# Altium schematic symbol library SYM-Passive.SchLib: 208 symbols (part 2 of 9)
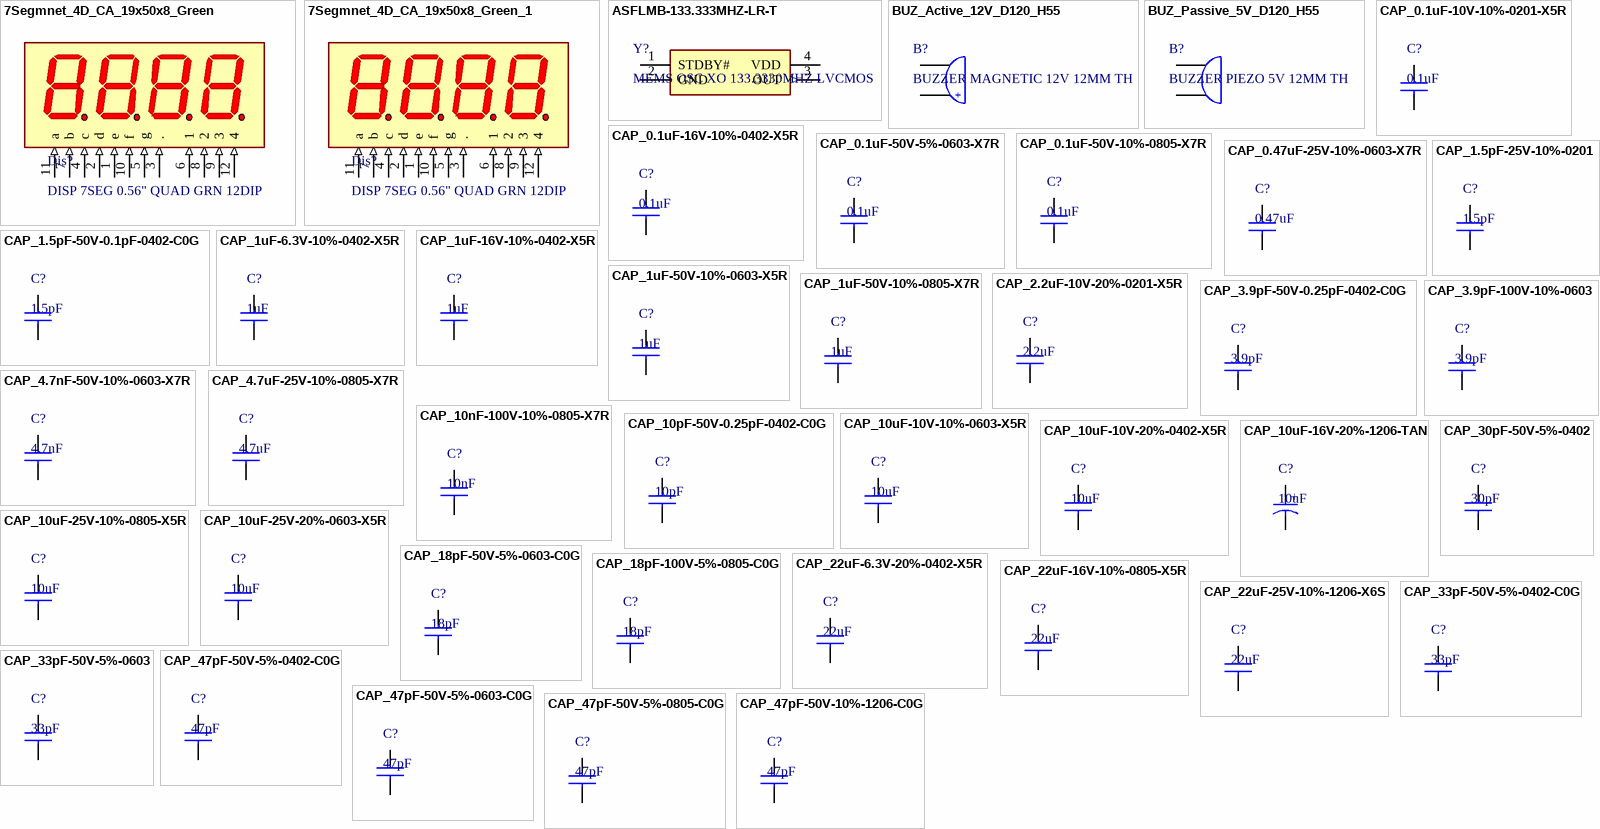
[diagram p6: symbols 7Segmnet_4D_CA_19x50x8_Green to CAP_47pF-50V-10%-1206-C0G]

## CAP_10uF-16V-20%-1206-TAN
designator C?, comment 10uF
Cap Tant Solid 10uF 16V A CASE 20% (3.2 X 1.6 X 1.6mm) SMD 3216-18 0.2 Ohm 125 C T/R; Manufacturer: Kyocera AVX; Manufacturer Part Number: TCJA106M016R0200; Dielectric Material: Tantalum; ESR (Equivalent Series Resistance): 200mR; Leakage Current: 16uA; Polarity: Polar; Dissipation Factor: 6%; Supplier 1: Digi-Key; RoHS: Yes; Category: Tantalum Capacitors; Stock 1: 25; Pricing 1: 1=0/87000, 10=0/61200, 50=0/46240, 100=0/40270, 500=0/29832, 1000=0/25356 (USD); Mount: Surface Mount,PCB; Case/Package: 1206; Number of Pins: 2; Case Code (Imperial): 1206; Case Code (Metric): 3216; Min Operating Temperature: -55°C; Max Operating Temperature: 125°C; Capacitance: 10uF; Voltage Rating: 16V; Packaging: Tape and Reel; Tolerance: 20%; Package Quantity: 1; Voltage Rating (DC): 16V; Termination: SMD/SMT; Voltage: 16V; Length: 3.2mm; Width: 1.6mm; Height: 1.6mm; Height - Seated (Max): 0.071inch; Depth: 1.6mm; Radiation Hardening: No; REACH SVHC: No SVHC; Lead Free: Lead Free; RoHS Compliant: Yes; ComponentLink1URL: https://datasheet.ciiva.com/22706/1805435-22706880.pdf?src-supplier=Element14; ComponentLink1Description: https://datasheet.ciiva.com/22706/1805435-22706880.pdf?src-supplier=Element14; ComponentLink2URL: https://datasheet.ciiva.com/11793/0900766b80eff593-11793323.pdf?src-supplier=RSComponents; ComponentLink2Description: https://datasheet.ciiva.com/11793/0900766b80eff593-11793323.pdf?src-supplier=RSComponents; ComponentLink3URL: https://datasheet.ciiva.com/7730/1805435-7730831.pdf?src-supplier=Element14; ComponentLink3Description: https://datasheet.ciiva.com/7730/1805435-7730831.pdf?src-supplier=Element14; ComponentLink4URL: https://datasheet.ciiva.com/7730/1805435-7730830.pdf?src-supplier=Element14; ComponentLink4Description: https://datasheet.ciiva.com/7730/1805435-7730830.pdf?src-supplier=Element14; ComponentLink5URL: https://datasheet.ciiva.com/7730/1805435-7730829.pdf?src-supplier=Element14; ComponentLink5Description: https://datasheet.ciiva.com/7730/1805435-7730829.pdf?src-supplier=Element14; ComponentLink6URL: https://datasheet.ciiva.com/264/tcj-264056.pdf?src-supplier=Digi-Key; ComponentLink6Description: https://datasheet.ciiva.com/264/tcj-264056.pdf?src-supplier=Digi-Key; ComponentLink7URL: https://datasheet.ciiva.com/264/tcj-264055.pdf?src-supplier=Digi-Key; ComponentLink7Description: https://datasheet.ciiva.com/264/tcj-264055.pdf?src-supplier=Digi-Key; ComponentLink8URL: https://datasheet.ciiva.com/264/tcj-264057.pdf?src-supplier=Digi-Key; ComponentLink8Description: https://datasheet.ciiva.com/264/tcj-264057.pdf?src-supplier=Digi-Key; ComponentLink9URL: https://datasheet.ciiva.com/14593/70001813-14593228.pdf?src-supplier=Allied+Electronics; ComponentLink9Description: https://datasheet.ciiva.com/14593/70001813-14593228.pdf?src-supplier=Allied+Electronics; ComponentLink10URL: https://datasheet.ciiva.com/14596/70001813-14596970.pdf?src-supplier=Allied+Electronics; ComponentLink10Description: https://datasheet.ciiva.com/14596/70001813-14596970.pdf?src-supplier=Allied+Electronics; ComponentLink11URL: https://datasheet.ciiva.com/11230/tcj-11230524.pdf?src-supplier=Avnet; ComponentLink11Description: https://datasheet.ciiva.com/11230/tcj-11230524.pdf?src-supplier=Avnet; ComponentLink12URL: https://datasheet.ciiva.com/16493/tcj-16493481.pdf?src-supplier=Future+Electronics; ComponentLink12Description: https://datasheet.ciiva.com/16493/tcj-16493481.pdf?src-supplier=Future+Electronics; Supplier Part Number 1: 478-3451-1-ND
footprint CAPMP3216X18N - A (Molded Capacitor, 2-Leads, Body 3/20x1/60mm, IPC Medium Density)
pins: A 2, C 1
text: +

## CAP_10uF-25V-10%-0805-X5R
designator C?, comment 10uF
CAP CER 10UF 25V X5R 0805; Manufacturer: Samsung; Manufacturer Part Number: CL21A106KAYNNNE; Tolerance: 10%; Supplier 1: Digi-Key; RoHS: Yes; Category: Ceramic Capacitors; Stock 1: 2610903; Pricing 1: 1=0/20000, 10=0/14000, 50=0/07920, 100=0/06570, 500=0/04606, 1000=0/03814 (USD); Mount: Surface Mount; Case/Package: 0805; Case Code (Metric): 2012; Case Code (Imperial): 0805; Min Operating Temperature: -55°C; Max Operating Temperature: 85°C; Package Quantity: 1; Packaging: Tape and Reel; Capacitance: 10uF; Voltage Rating: 25V; Dielectric: X5R; Series: CL; Construction: Flat; Length: 2mm; Width: 0.049inch; Height: 1.25mm; Thickness: 0.057inch; Depth: 1.25mm; Radiation Hardening: No; RoHS Compliant: Yes; ComponentLink1URL: https://datasheet.ciiva.com/25796/cl21a106kaynnne-25796720.pdf?src-supplier=Digi-Key; ComponentLink1Description: https://datasheet.ciiva.com/25796/cl21a106kaynnne-25796720.pdf?src-supplier=Digi-Key; ComponentLink2URL: https://datasheet.ciiva.com/26838/getdatasheetpartid-357558-26838583.pdf?src-supplier=Verical; ComponentLink2Description: https://datasheet.ciiva.com/26838/getdatasheetpartid-357558-26838583.pdf?src-supplier=Verical; Supplier Part Number 1: 1276-2891-1-ND
footprint CAPC2012X14N - 0805 (Chip Capacitor, 2-Leads, Body 2/00x1/25mm, IPC Medium Density)
footprint CAPC2012X14M - 0805 (Chip Capacitor, 2-Leads, Body 2/00x1/25mm, IPC Low Density)
footprint CAPC2012X14L - 0805 (Chip Capacitor, 2-Leads, Body 2/00x1/25mm, IPC High Density)
pins: 1, 2

## CAP_10uF-25V-20%-0603-X5R
designator C?, comment 10uF
CAP CER 10UF 25V X5R 0603; Manufacturer: Samsung; Manufacturer Part Number: CL10A106MA8NRNC; Tolerance: 20%; Supplier 1: Digi-Key; RoHS: Yes; Category: Ceramic Capacitors; Stock 1: 1176536; Pricing 1: 1=0/26000, 10=0/17900, 50=0/11960, 100=0/10170, 500=0/07178, 1000=0/06280 (USD); Mount: Surface Mount; Case/Package: 0603; Case Code (Metric): 1608; Case Code (Imperial): 0603; Contact Plating: Tin; Min Operating Temperature: -55°C; Max Operating Temperature: 85°C; Package Quantity: 1; Packaging: Tape and Reel; Capacitance: 10uF; Voltage Rating: 25V; Dielectric: X5R; Termination: Wraparound; Series: CL; Construction: Flat; Length: 0.063inch; Width: 0.031inch; Thickness: 0.035inch; Lead Free: Lead Free; RoHS Compliant: Yes; ComponentLink1URL: https://datasheet.ciiva.com/25766/cl10a106ma8nrnc-25766562.pdf?src-supplier=Digi-Key; ComponentLink1Description: https://datasheet.ciiva.com/25766/cl10a106ma8nrnc-25766562.pdf?src-supplier=Digi-Key; Supplier Part Number 1: 1276-1869-1-ND
footprint CAPC1608X07N - 0603 (Chip Capacitor, 2-Leads, Body 1/60x0/80mm, IPC Medium Density)
footprint CAPC1608X07M - 0603 (Chip Capacitor, 2-Leads, Body 1/60x0/80mm, IPC Low Density)
footprint CAPC1608X07L - 0603 (Chip Capacitor, 2-Leads, Body 1/60x0/80mm, IPC High Density)
pins: 1, 2

## CAP_18pF-50V-5%-0603-C0G
designator C?, comment 18pF
Cap Ceramic 18pF 50V C0G 5% SMD 0603 125°C Paper T/R; Manufacturer: Samsung; Manufacturer Part Number: CL10C180JB81PNC; Supplier 1: Digi-Key; RoHS: Yes; Category: Ceramic Capacitors; Stock 1: 184038; Pricing 1: 1=0/10000, 10=0/04700, 50=0/02540, 100=0/02080, 500=0/01482, 1000=0/01165 (USD); Mount: Surface Mount; Case/Package: 0603; Case Code (Metric): 1608; Case Code (Imperial): 0603; Min Operating Temperature: -55°C; Max Operating Temperature: 125°C; Tolerance: 5%; Packaging: Tape and Reel; Capacitance: 18pF; Voltage Rating: 50V; Dielectric: C0G; Series: CL; Length: 1.6mm; Width: 0.031inch; Thickness: 0.035inch; Depth: 0.8mm; Ratings: AEC-Q200; Radiation Hardening: No; Lead Free: Lead Free; RoHS Compliant: Yes; ComponentLink1URL: https://datasheet.ciiva.com/16209/cl10c180jb81pnc-16209341.pdf?src-supplier=Future+Electronics; ComponentLink1Description: https://datasheet.ciiva.com/16209/cl10c180jb81pnc-16209341.pdf?src-supplier=Future+Electronics; ComponentLink2URL: https://datasheet.ciiva.com/15195/getdatasheetpartid-357568-15195801.pdf?src-supplier=Verical; ComponentLink2Description: https://datasheet.ciiva.com/15195/getdatasheetpartid-357568-15195801.pdf?src-supplier=Verical; Supplier Part Number 1: 1276-2208-1-ND
footprint CAPC1608X07N - 0603 (Chip Capacitor, 2-Leads, Body 1/60x0/80mm, IPC Medium Density)
footprint CAPC1608X07M - 0603 (Chip Capacitor, 2-Leads, Body 1/60x0/80mm, IPC Low Density)
footprint CAPC1608X07L - 0603 (Chip Capacitor, 2-Leads, Body 1/60x0/80mm, IPC High Density)
pins: 1, 2

## CAP_18pF-100V-5%-0805-C0G
designator C?, comment 18pF
Cap Ceramic 18pF 100V C0G 5% SMD 0805 125°C Paper T/R; Manufacturer: Samsung; Manufacturer Part Number: CL21C180JC61PNC; Supplier 1: Digi-Key; RoHS: Yes; Category: Ceramic Capacitors; Stock 1: 90; Pricing 1: 1=0/11000, 10=0/07500, 50=0/04260 (USD); Mount: Surface Mount; Case/Package: 0805; Case Code (Metric): 2012; Case Code (Imperial): 0805; Min Operating Temperature: -55°C; Max Operating Temperature: 125°C; Packaging: Tape and Reel; Capacitance: 18pF; Voltage Rating: 100V; Tolerance: 5%; Length: 0.079inch; Width: 0.049inch; Thickness: 0.028inch; Ratings: AEC-Q200; RoHS Compliant: Yes; ComponentLink1URL: http://samsungcapacitor.com/data/pdf/CC_Automotive.pdf?PHPSESSID=19333890dc25507cc6331564d43e77e7&src-supplier=Avnet; ComponentLink1Description: http://samsungcapacitor.com/data/pdf/CC_Automotive.pdf?PHPSESSID=19333890dc25507cc6331564d43e77e7&src-supplier=Avnet; ComponentLink2URL: http://www.samsungsem.com/kr/support/library/product-catalog/mlcc.jsp?src-supplier=Digi-Key; ComponentLink2Description: http://www.samsungsem.com/kr/support/library/product-catalog/mlcc.jsp?src-supplier=Digi-Key; Supplier Part Number 1: 1276-6765-1-ND
footprint CAPC2012X14N - 0805 (Chip Capacitor, 2-Leads, Body 2/00x1/25mm, IPC Medium Density)
footprint CAPC2012X14M - 0805 (Chip Capacitor, 2-Leads, Body 2/00x1/25mm, IPC Low Density)
footprint CAPC2012X14L - 0805 (Chip Capacitor, 2-Leads, Body 2/00x1/25mm, IPC High Density)
pins: 1, 2

## CAP_22uF-6.3V-20%-0402-X5R
designator C?, comment 22uF
Cap Ceramic 22uF 6.3V X5R 20% SMD 0402 85°C Cardboard T/R; Manufacturer: Samsung; Manufacturer Part Number: CL05A226MQ5QUNC; Supplier 1: Digi-Key; RoHS: Yes; Category: Ceramic Capacitors; Stock 1: 303668; Pricing 1: 1=0/60000, 10=0/42200, 50=0/31940, 100=0/27820, 500=0/20608, 1000=0/17517, 2500=0/16486, 5000=0/15456 (USD); Mount: Surface Mount; Case/Package: 0402; Case Code (Metric): 1005; Case Code (Imperial): 0402; Min Operating Temperature: -55°C; Max Operating Temperature: 85°C; Packaging: Tape and Reel; Capacitance: 22uF; Voltage Rating: 6.3V; Tolerance: 20%; Length: 0.039inch; Width: 0.02inch; Thickness: 0.022inch; RoHS Compliant: Yes; ComponentLink1URL: http://www.samsungsem.com/kr/support/product-search/mlcc/__icsFiles/afieldfile/2018/08/20/Data%20sheet_CL05A226MQ5QUNC.pdf?src-supplier=Digi-Key; ComponentLink1Description: http://www.samsungsem.com/kr/support/product-search/mlcc/__icsFiles/afieldfile/2018/08/20/Data%20sheet_CL05A226MQ5QUNC.pdf?src-supplier=Digi-Key; Supplier Part Number 1: 1276-6834-1-ND
footprint CAPC1005X07N - 0402 (Chip Capacitor, 2-Leads, Body 1/00x0/50mm, IPC Medium Density)
footprint CAPC1005X07M - 0402 (Chip Capacitor, 2-Leads, Body 1/00x0/50mm, IPC Low Density)
footprint CAPC1005X07L - 0402 (Chip Capacitor, 2-Leads, Body 1/00x0/50mm, IPC High Density)
pins: 1, 2

## CAP_22uF-16V-10%-0805-X5R
designator C?, comment 22uF
CL21 Series 0805 22 uF 16 V ±10% Tolerance X5R Multilayer Ceramic Capacitor; Manufacturer: Samsung; Manufacturer Part Number: CL21A226KOQNNNE; Voltage Rating: 16V; Supplier 1: Digi-Key; RoHS: Yes; Category: Ceramic Capacitors; Stock 1: 721; Pricing 1: 1=0/37000, 10=0/25800, 50=0/18040, 100=0/15460, 500=0/11592, 1000=0/09789 (USD); Mount: Surface Mount; Case/Package: 0805; Case Code (Metric): 2012; Case Code (Imperial): 0805; Min Operating Temperature: -55°C; Max Operating Temperature: 85°C; Packaging: Tape and Reel; Capacitance: 22uF; Tolerance: 10%; Voltage Rating (DC): 16V; Length: 0.079inch; Width: 0.049inch; Thickness: 0.055inch; Lead Free: Lead Free; RoHS Compliant: Yes; ComponentLink1URL: http://www.samsungsem.com/kr/support/library/product-catalog/mlcc.jsp?src-supplier=Digi-Key; ComponentLink1Description: http://www.samsungsem.com/kr/support/library/product-catalog/mlcc.jsp?src-supplier=Digi-Key; Supplier Part Number 1: 1276-6526-1-ND
footprint CAPC2012X14N - 0805 (Chip Capacitor, 2-Leads, Body 2/00x1/25mm, IPC Medium Density)
footprint CAPC2012X14M - 0805 (Chip Capacitor, 2-Leads, Body 2/00x1/25mm, IPC Low Density)
footprint CAPC2012X14L - 0805 (Chip Capacitor, 2-Leads, Body 2/00x1/25mm, IPC High Density)
pins: 1, 2

## CAP_22uF-25V-10%-1206-X6S
designator C?, comment 22uF
Cap Ceramic 22uF 25V X6S 10% SMD 1206 105°C Embossed Plastic T/R; Manufacturer: Samsung; Manufacturer Part Number: CL31X226KAHN3NE; Supplier 1: Digi-Key; RoHS: Yes; Category: Ceramic Capacitors; Stock 1: 44746; Pricing 1: 1=0/74000, 10=0/54300, 50=0/43420, 100=0/37220, 500=0/29464, 1000=0/24812 (USD); Mount: Surface Mount; Case/Package: 1206; Case Code (Metric): 3216; Case Code (Imperial): 1206; Contact Plating: Tin; Min Operating Temperature: -55°C; Max Operating Temperature: 105°C; Package Quantity: 1; Packaging: Cut Tape; Capacitance: 22uF; Tolerance: 10%; Voltage Rating: 25V; Dielectric: X6S; Termination: Wraparound; Length: 0.126inch; Width: 0.063inch; Thickness: 0.071inch; Lead Free: Lead Free; RoHS Compliant: Yes; ComponentLink1URL: https://datasheet.ciiva.com/25721/cl31x226kahn3ne-25721637.pdf?src-supplier=Digi-Key; ComponentLink1Description: https://datasheet.ciiva.com/25721/cl31x226kahn3ne-25721637.pdf?src-supplier=Digi-Key; Supplier Part Number 1: 1276-3299-1-ND
footprint CAPC3216X18N - 1206 (Chip Capacitor, 2-Leads, Body 3/20x1/60mm, IPC Medium Density)
footprint CAPC3216X18M - 1206 (Chip Capacitor, 2-Leads, Body 3/20x1/60mm, IPC Low Density)
footprint CAPC3216X18L - 1206 (Chip Capacitor, 2-Leads, Body 3/20x1/60mm, IPC High Density)
pins: 1, 2

## CAP_30pF-50V-5%-0402
designator C?, comment 30pF
Cap Ceramic 30pF 50V C0G 5% Pad SMD 0402 125°C Ultra Low ESR T/R; Manufacturer: Johanson; Manufacturer Part Number: 500R07S300JV4T; Supplier 1: Digi-Key; RoHS: Yes; Category: Ceramic Capacitors; Stock 1: 64229; Pricing 1: 1=0/22000, 10=0/14800, 50=0/08920, 100=0/07520, 500=0/05148, 1000=0/04554, 2500=0/04356, 5000=0/03960 (USD); Case/Package: 0402; Contact Plating: Tin; Case Code (Imperial): 0402; Case Code (Metric): 1005; Min Operating Temperature: -55°C; Max Operating Temperature: 125°C; Package Quantity: 1; Voltage Rating: 50V; Voltage Rating (DC): 50V; Termination: SMD/SMT; Dielectric: C0G; Tolerance: 5%; Packaging: Tape and Reel; Capacitance: 30pF; Length: 1.02mm; Width: 0.02inch; Height: 0.64mm; Thickness: 0.024inch; Depth: 0.51mm; ComponentLink1URL: http://components.arrow.com/part/dataview/0323_06014503?src-supplier=Arrow+Europe; ComponentLink1Description: http://components.arrow.com/part/dataview/0323_06014503?src-supplier=Arrow+Europe; ComponentLink2URL: http://www.mouser.com/ds/2/611/JTI-CAT-MLCC-HighQ-516212.pdf?src-supplier=Mouser; ComponentLink2Description: http://www.mouser.com/ds/2/611/JTI-CAT-MLCC-HighQ-516212.pdf?src-supplier=Mouser; ComponentLink3URL: http://components.arrow.com/part/dataview/52294758S635432N2069?src-supplier=Arrow+Electronics; ComponentLink3Description: http://components.arrow.com/part/dataview/52294758S635432N2069?src-supplier=Arrow+Electronics; ComponentLink4URL: https://www.johansontechnology.com/downloads/JTI-CAT-MLCC-HighQ.pdf?src-supplier=Digi-Key; ComponentLink4Description: https://www.johansontechnology.com/downloads/JTI-CAT-MLCC-HighQ.pdf?src-supplier=Digi-Key; ComponentLink5URL: https://www.johansontechnology.com/downloads/catalog/johanson-technology-multi-layer-high-q-capacitors.pdf?src-supplier=Digi-Key; ComponentLink5Description: https://www.johansontechnology.com/downloads/catalog/johanson-technology-multi-layer-high-q-capacitors.pdf?src-supplier=Digi-Key; ComponentLink6URL: http://www.johansontechnology.com/downloads/JTI-CAT-MLCC-HighQ.pdf?src-supplier=Avnet+Asia; ComponentLink6Description: http://www.johansontechnology.com/downloads/JTI-CAT-MLCC-HighQ.pdf?src-supplier=Avnet+Asia; Supplier Part Number 1: 712-1296-1-ND
footprint CAPC1005X07N - 0402 (Chip Capacitor, 2-Leads, Body 1/00x0/50mm, IPC Medium Density)
footprint CAPC1005X07M - 0402 (Chip Capacitor, 2-Leads, Body 1/00x0/50mm, IPC Low Density)
footprint CAPC1005X07L - 0402 (Chip Capacitor, 2-Leads, Body 1/00x0/50mm, IPC High Density)
pins: 1, 2

## CAP_33pF-50V-5%-0402-C0G
designator C?, comment 33pF
Ceramic capacitor SMD-0402 33pF /50V C0G# J +-5%, Samsung, RoHS; Manufacturer Part Number: CL05C330JB5NNNC; Tolerance: 5%; Voltage Rating: 50V; Dielectric: C0G; Temperature Coefficient: 300ppm/°C; Supplier 1: Digi-Key; Manufacturer: Samsung; RoHS: Yes; Category: Ceramic Capacitors; Stock 1: 10028715; Pricing 1: 1=0/10000, 10=0/02300, 50=0/01260, 100=0/01020, 500=0/00732, 1000=0/00575, 2500=0/00523, 5000=0/00481 (USD); Mount: Surface Mount; Case/Package: 0402; Case Code (Metric): 1005; Case Code (Imperial): 0402; Material: Ceramic; Contact Plating: Tin; Min Operating Temperature: -55°C; Max Operating Temperature: 125°C; Package Quantity: 1; Packaging: Tape and Reel; Capacitance: 33pF; Voltage: 50V; Voltage Rating (DC): 50V; Series: CL; Construction: Flat; Length: 1mm; Width: 0.02inch; Height: 0.5mm; Thickness: 0.022inch; Depth: 0.5mm; Radiation Hardening: No; Lead Free: Lead Free; RoHS Compliant: Yes; ComponentLink1URL: https://datasheet.ciiva.com/15195/getdatasheetpartid-355282-15195687.pdf?src-supplier=Verical; ComponentLink1Description: https://datasheet.ciiva.com/15195/getdatasheetpartid-355282-15195687.pdf?src-supplier=Verical; ComponentLink2URL: https://datasheet.ciiva.com/29198/458594-da-01-en-vs-kondensator-0402-29198402.pdf?src-supplier=Conrad; ComponentLink2Description: https://datasheet.ciiva.com/29198/458594-da-01-en-vs-kondensator-0402-29198402.pdf?src-supplier=Conrad; Supplier Part Number 1: 1276-1272-1-ND
footprint CAPC1005X07N - 0402 (Chip Capacitor, 2-Leads, Body 1/00x0/50mm, IPC Medium Density)
footprint CAPC1005X07M - 0402 (Chip Capacitor, 2-Leads, Body 1/00x0/50mm, IPC Low Density)
footprint CAPC1005X07L - 0402 (Chip Capacitor, 2-Leads, Body 1/00x0/50mm, IPC High Density)
pins: 1, 2

## CAP_33pF-50V-5%-0603
designator C?, comment 33pF
CAP CER 33PF 50V C0G/NP0 0603; Manufacturer: Samsung; Manufacturer Part Number: CL10C330JB8NNNC; Material: Ceramic; Tolerance: 5%; Dielectric: C0G; Temperature Coefficient: 30ppm/°C; Supplier 1: Digi-Key; RoHS: Yes; Category: Ceramic Capacitors; Stock 1: 59691; Pricing 1: 1=0/10000, 10=0/04700, 50=0/02580, 100=0/02110, 500=0/01510, 1000=0/01186 (USD); Mount: Surface Mount; Case/Package: 0603; Case Code (Metric): 1608; Case Code (Imperial): 0603; Contact Plating: Tin; Min Operating Temperature: -55°C; Max Operating Temperature: 125°C; Capacitance: 33pF; Voltage: 50V; Voltage Rating (DC): 50V; Packaging: Tape and Reel; Voltage Rating: 50V; Package Quantity: 4000; Series: CL; Construction: Flat; Length: 1.6mm; Width: 0.031inch; Height: 0.8mm; Depth: 0.8mm; Thickness: 0.035inch; Radiation Hardening: No; Lead Free: Lead Free; RoHS Compliant: Yes; ComponentLink1URL: https://datasheet.ciiva.com/15195/getdatasheetpartid-359562-15195818.pdf?src-supplier=Verical; ComponentLink1Description: https://datasheet.ciiva.com/15195/getdatasheetpartid-359562-15195818.pdf?src-supplier=Verical; ComponentLink2URL: https://datasheet.ciiva.com/29198/457018-da-01-en-vs-kondensator-0603-29198727.pdf?src-supplier=Conrad; ComponentLink2Description: https://datasheet.ciiva.com/29198/457018-da-01-en-vs-kondensator-0603-29198727.pdf?src-supplier=Conrad; Supplier Part Number 1: 1276-1070-1-ND
footprint CAPC1608X07N - 0603 (Chip Capacitor, 2-Leads, Body 1/60x0/80mm, IPC Medium Density)
footprint CAPC1608X07M - 0603 (Chip Capacitor, 2-Leads, Body 1/60x0/80mm, IPC Low Density)
footprint CAPC1608X07L - 0603 (Chip Capacitor, 2-Leads, Body 1/60x0/80mm, IPC High Density)
pins: 1, 2

## CAP_47pF-50V-5%-0402-C0G
designator C?, comment 47pF
Ceramic capacitor SMD-0402 47pF /50V C0G # K +-5%, Samsung, RoHS; Manufacturer Part Number: CL05C470JB5NNNC; Tolerance: 5%; Voltage Rating: 50V; Temperature Coefficient: 300ppm/°C; Supplier 1: Digi-Key; Manufacturer: Samsung; RoHS: Yes; Category: Ceramic Capacitors; Mount: Surface Mount; Case/Package: 0402; Case Code (Metric): 1005; Case Code (Imperial): 0402; Material: Ceramic; Contact Plating: Tin; Min Operating Temperature: -55°C; Max Operating Temperature: 125°C; Packaging: Tape and Reel; Package Quantity: 1; Capacitance: 47pF; Dielectric: C0G; Voltage: 50V; Series: CL; Construction: Flat; Length: 1mm; Width: 0.02inch; Height: 0.5mm; Thickness: 0.022inch; Depth: 0.5mm; Radiation Hardening: No; RoHS Compliant: Yes; ComponentLink1URL: https://datasheet.ciiva.com/15195/getdatasheetpartid-466159-15195693.pdf?src-supplier=Verical; ComponentLink1Description: https://datasheet.ciiva.com/15195/getdatasheetpartid-466159-15195693.pdf?src-supplier=Verical; ComponentLink2URL: https://datasheet.ciiva.com/29198/458555-da-01-en-vs-kondensator-0402-29198397.pdf?src-supplier=Conrad; ComponentLink2Description: https://datasheet.ciiva.com/29198/458555-da-01-en-vs-kondensator-0402-29198397.pdf?src-supplier=Conrad; ComponentLink3URL: https://datasheet.ciiva.com/16297/cl05b104kq5nnnc-16297131.pdf?src-supplier=Future+Electronics; ComponentLink3Description: https://datasheet.ciiva.com/16297/cl05b104kq5nnnc-16297131.pdf?src-supplier=Future+Electronics; Supplier Part Number 1: 1276-1699-1-ND
footprint CAPC1005X07N - 0402 (Chip Capacitor, 2-Leads, Body 1/00x0/50mm, IPC Medium Density)
footprint CAPC1005X07M - 0402 (Chip Capacitor, 2-Leads, Body 1/00x0/50mm, IPC Low Density)
footprint CAPC1005X07L - 0402 (Chip Capacitor, 2-Leads, Body 1/00x0/50mm, IPC High Density)
pins: 1, 2

## CAP_47pF-50V-5%-0603-C0G
designator C?, comment 47pF
Ceramic capacitor SMD-0603 47pF /50V NP0# J +-5%, Samsung, RoHS; Manufacturer Part Number: CL10C470JB8NNNC; Voltage Rating (DC): 50V; Tolerance: 5%; Dielectric: C0G; Temperature Coefficient: 300ppm/°C; Supplier 1: Digi-Key; Manufacturer: Samsung; RoHS: Yes; Category: Ceramic Capacitors; Stock 1: 2230575; Pricing 1: 1=0/10000, 10=0/04100, 50=0/02240, 100=0/01830, 500=0/01308, 1000=0/01028 (USD); Mount: Surface Mount; Case/Package: 0603; Material: Ceramic; Case Code (Metric): 1608; Case Code (Imperial): 0603; Min Operating Temperature: -55°C; Max Operating Temperature: 125°C; Voltage Rating: 50V; Capacitance: 47pF; Package Quantity: 1; Packaging: Tape and Reel; Voltage: 50V; Series: CL; Construction: Flat; Length: 1.6mm; Width: 0.031inch; Height: 0.8mm; Depth: 0.8mm; Thickness: 0.035inch; Radiation Hardening: No; Lead Free: Lead Free; RoHS Compliant: Yes; ComponentLink1URL: https://datasheet.ciiva.com/25803/cl10c470jb8nnnc-25803543.pdf?src-supplier=Digi-Key; ComponentLink1Description: https://datasheet.ciiva.com/25803/cl10c470jb8nnnc-25803543.pdf?src-supplier=Digi-Key; ComponentLink2URL: https://datasheet.ciiva.com/26838/getdatasheetpartid-359564-26838540.pdf?src-supplier=Verical; ComponentLink2Description: https://datasheet.ciiva.com/26838/getdatasheetpartid-359564-26838540.pdf?src-supplier=Verical; ComponentLink3URL: https://datasheet.ciiva.com/29198/456890-da-01-en-vs-kondensator-0603-29198885.pdf?src-supplier=Conrad; ComponentLink3Description: https://datasheet.ciiva.com/29198/456890-da-01-en-vs-kondensator-0603-29198885.pdf?src-supplier=Conrad; ComponentLink4URL: https://datasheet.ciiva.com/26310/mlcc-catalogdownload2013-eng-26310294.pdf?src-supplier=Distrelec; ComponentLink4Description: https://datasheet.ciiva.com/26310/mlcc-catalogdownload2013-eng-26310294.pdf?src-supplier=Distrelec; Supplier Part Number 1: 1276-1037-1-ND
footprint CAPC1608X07N - 0603 (Chip Capacitor, 2-Leads, Body 1/60x0/80mm, IPC Medium Density)
footprint CAPC1608X07M - 0603 (Chip Capacitor, 2-Leads, Body 1/60x0/80mm, IPC Low Density)
footprint CAPC1608X07L - 0603 (Chip Capacitor, 2-Leads, Body 1/60x0/80mm, IPC High Density)
pins: 1, 2

## CAP_47pF-50V-5%-0805-C0G
designator C?, comment 47pF
Cap Ceramic 47pF 50V C0G 5% Pad SMD 0805 125C Automotive T/R; Manufacturer: Samsung; Manufacturer Part Number: CL21C470JB61PNC; Temperature Coefficient: 300ppm/°C; Supplier 1: Digi-Key; RoHS: Yes; Category: Ceramic Capacitors; Stock 1: 5; Pricing 1: 1=0/23000 (USD); Mount: Surface Mount; Case/Package: 0805; Case Code (Metric): 2012; Case Code (Imperial): 0805; Min Operating Temperature: -55°C; Max Operating Temperature: 125°C; Package Quantity: 1; Packaging: Tape and Reel; Capacitance: 47pF; Tolerance: 5%; Voltage Rating: 50V; Dielectric: C0G; Voltage: 50V; Series: CL; Construction: Flat; Length: 1.6mm; Width: 0.049inch; Height: 0.6mm; Thickness: 0.028inch; Depth: 0.8mm; Ratings: AEC-Q200; Radiation Hardening: No; Lead Free: Lead Free; RoHS Compliant: Yes; ComponentLink1URL: https://datasheet.ciiva.com/15195/getdatasheetpartid-355207-15195962.pdf?src-supplier=Verical; ComponentLink1Description: https://datasheet.ciiva.com/15195/getdatasheetpartid-355207-15195962.pdf?src-supplier=Verical; ComponentLink2URL: https://datasheet.ciiva.com/16396/cl21c470jb61pnc-16396938.pdf?src-supplier=Future+Electronics; ComponentLink2Description: https://datasheet.ciiva.com/16396/cl21c470jb61pnc-16396938.pdf?src-supplier=Future+Electronics; Supplier Part Number 1: 1276-2660-1-ND
footprint CAPC2012X14N - 0805 (Chip Capacitor, 2-Leads, Body 2/00x1/25mm, IPC Medium Density)
footprint CAPC2012X14M - 0805 (Chip Capacitor, 2-Leads, Body 2/00x1/25mm, IPC Low Density)
footprint CAPC2012X14L - 0805 (Chip Capacitor, 2-Leads, Body 2/00x1/25mm, IPC High Density)
pins: 1, 2

## CAP_47pF-50V-10%-1206-C0G
designator C?, comment 47pF
Cap Ceramic 47pF 50V C0G 10% SMD 1206 125°C Cardboard T/R; Manufacturer: Samsung; Manufacturer Part Number: CL31C470KBCNNNC; Supplier 1: Digi-Key; RoHS: Yes; Category: Ceramic Capacitors; Mount: Surface Mount; Case/Package: 1206; Case Code (Metric): 3216; Case Code (Imperial): 1206; Min Operating Temperature: -55°C; Max Operating Temperature: 125°C; Package Quantity: 1; Packaging: Tape and Reel; Capacitance: 47pF; Tolerance: 10%; Voltage Rating: 50V; Dielectric: C0G; Voltage Rating (DC): 50V; Series: CL; Construction: Flat; Length: 0.126inch; Width: 0.063inch; Height: 0.85mm; Thickness: 0.039inch; Depth: 1.6mm; Radiation Hardening: No; RoHS Compliant: Yes; ComponentLink1URL: https://datasheet.ciiva.com/25719/cl31c470kbcnnnc-25719333.pdf?src-supplier=Digi-Key; ComponentLink1Description: https://datasheet.ciiva.com/25719/cl31c470kbcnnnc-25719333.pdf?src-supplier=Digi-Key; Supplier Part Number 1: 1276-2839-1-ND
footprint CAPC3216X18N - 1206 (Chip Capacitor, 2-Leads, Body 3/20x1/60mm, IPC Medium Density)
footprint CAPC3216X18M - 1206 (Chip Capacitor, 2-Leads, Body 3/20x1/60mm, IPC Low Density)
footprint CAPC3216X18L - 1206 (Chip Capacitor, 2-Leads, Body 3/20x1/60mm, IPC High Density)
pins: 1, 2

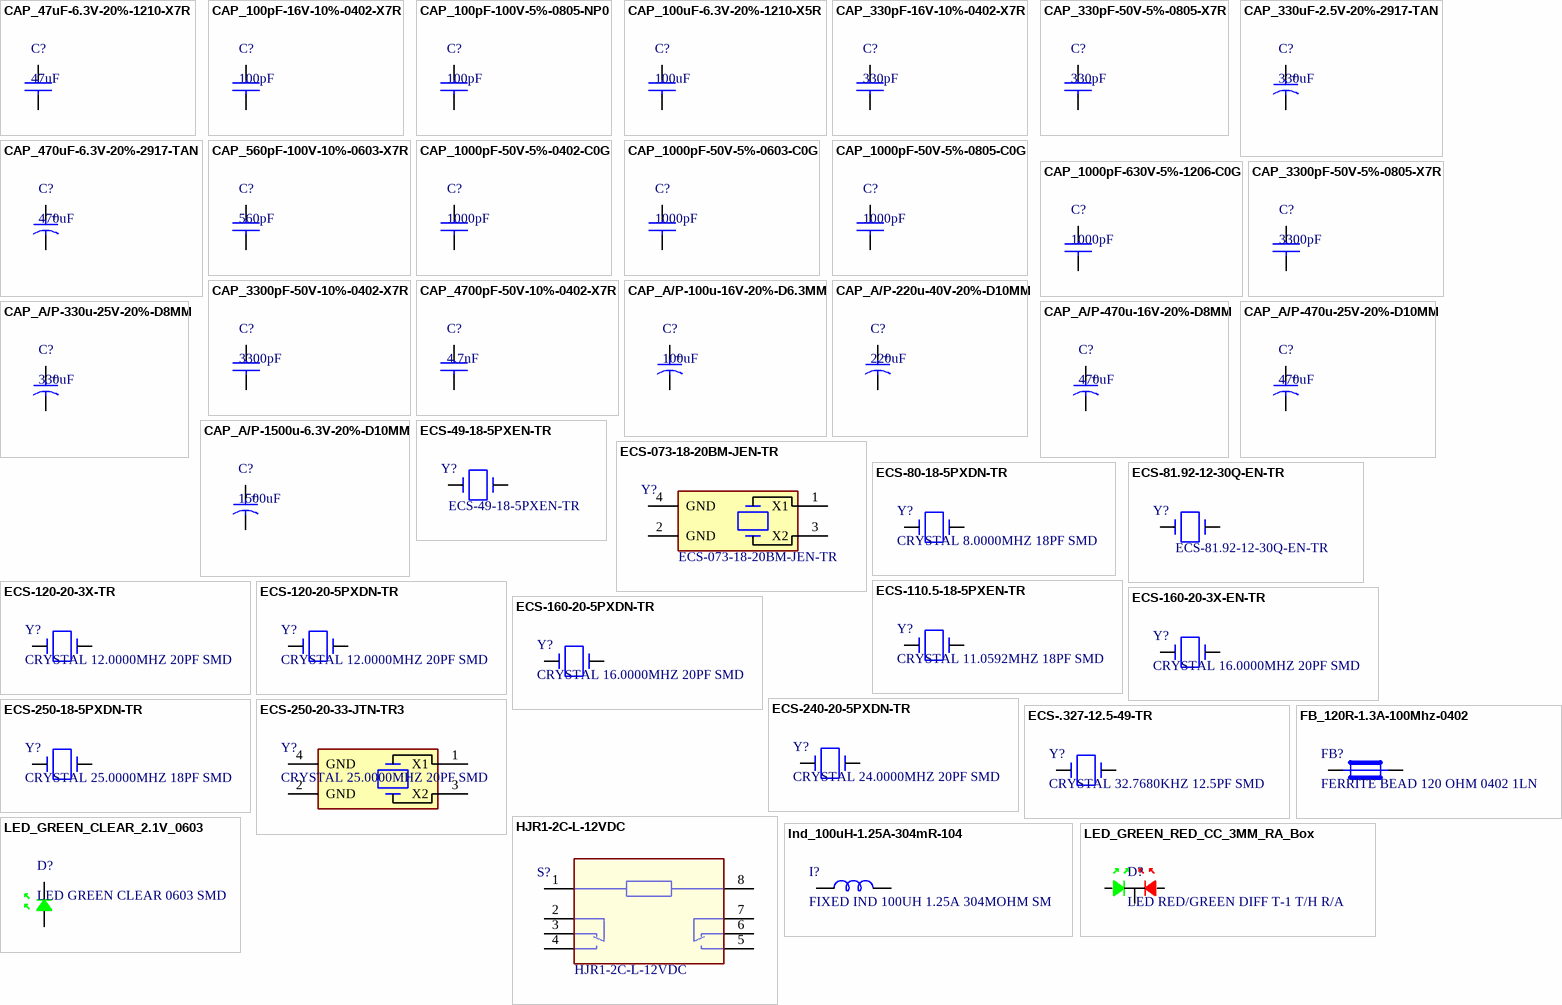
[diagram p1: symbols CAP_47uF-6.3V-20%-1210-X7R to LED_GREEN_RED_CC_3MM_RA_Box]

## CAP_47uF-6.3V-20%-1210-X7R
designator C?, comment 47uF
CAP CER 47UF 6.3V 20% X7R 1210; Manufacturer: Murata; Manufacturer Part Number: GRM32ER70J476ME20L; Supplier 1: Digi-Key; RoHS: Yes; Category: Ceramic Capacitors; Stock 1: 530; Pricing 1: 1=0/99000, 10=0/75100, 50=0/62380, 100=0/53720, 500=0/41592 (USD); Mount: Surface Mount; Case/Package: 1210; Case Code (Metric): 3225; Case Code (Imperial): 1210; Min Operating Temperature: -55°C; Max Operating Temperature: 125°C; Package Quantity: 1; Tolerance: 20%; Packaging: Tape and Reel; Capacitance: 47uF; Voltage Rating: 6.3V; Voltage Rating (DC): 6.3V; Dielectric: X7R; Termination: SMD/SMT; Series: GRM; Construction: Flat; Length: 3.2mm; Width: 0.098inch; Height: 2.5mm; Thickness: 0.106inch; Depth: 2.5mm; Radiation Hardening: No; Lead Free: Lead Free; RoHS Compliant: Yes; ComponentLink1URL: https://datasheet.ciiva.com/6264/partnumbering-e-01-6264583.pdf?src-supplier=Digi-Key; ComponentLink1Description: https://datasheet.ciiva.com/6264/partnumbering-e-01-6264583.pdf?src-supplier=Digi-Key; ComponentLink2URL: https://datasheet.ciiva.com/6264/partnumbering-e-01-6264582.pdf?src-supplier=Digi-Key; ComponentLink2Description: https://datasheet.ciiva.com/6264/partnumbering-e-01-6264582.pdf?src-supplier=Digi-Key; ComponentLink3URL: https://datasheet.ciiva.com/6264/partnumbering-e-01-6264585.pdf?src-supplier=Digi-Key; ComponentLink3Description: https://datasheet.ciiva.com/6264/partnumbering-e-01-6264585.pdf?src-supplier=Digi-Key; ComponentLink4URL: https://datasheet.ciiva.com/16497/product-16497003.pdf?src-supplier=Future+Electronics; ComponentLink4Description: https://datasheet.ciiva.com/16497/product-16497003.pdf?src-supplier=Future+Electronics; Supplier Part Number 1: 490-6542-1-ND
footprint CAPC3225X27N - 1210 (Chip Capacitor, 2-Leads, Body 3/20x2/50mm, IPC Medium Density)
footprint CAPC3225X27M - 1210 (Chip Capacitor, 2-Leads, Body 3/20x2/50mm, IPC Low Density)
footprint CAPC3225X27L - 1210 (Chip Capacitor, 2-Leads, Body 3/20x2/50mm, IPC High Density)
pins: 1, 2

## CAP_100pF-16V-10%-0402-X7R
designator C?, comment 100pF
0402 100 pF 16 V ±10 % Tolerance X7R SMT Multilayer Ceramic Chip Capacitor; Manufacturer: Vishay Vitramon; Manufacturer Part Number: VJ0402Y101KXJCW1BC; Dielectric Material: Tantalum; Voltage Rating: 16V; Tolerance: 10%; Supplier 1: Digi-Key; RoHS: Yes; Category: Ceramic Capacitors; Stock 1: 6061; Pricing 1: 1=0/10000, 10=0/07600, 50=0/04120, 100=0/03370, 500=0/02408, 1000=0/01892, 2500=0/01720, 5000=0/01582 (USD); Mount: Surface Mount; Case/Package: 0402; Case Code (Imperial): 0402; Case Code (Metric): 1005; Min Operating Temperature: -55°C; Max Operating Temperature: 125°C; Capacitance: 100pF; Voltage Rating (DC): 16V; Packaging: Tape and Reel; Package Quantity: 10000; Dielectric: X7R; Termination: SMD/SMT; Series: VJ W1BC; Construction: Flat; Length: 1mm; Width: 0.5mm; Height: 0.55mm; Depth: 0.5mm; Lead Free: Lead Free; RoHS Compliant: Yes; ComponentLink1URL: https://datasheet.ciiva.com/11477/vjw1bcbascomseries-11477134.pdf?src-supplier=Avnet; ComponentLink1Description: https://datasheet.ciiva.com/11477/vjw1bcbascomseries-11477134.pdf?src-supplier=Avnet; ComponentLink2URL: https://datasheet.ciiva.com/16511/vjw1bcbascomseries-16511422.pdf?src-supplier=Future+Electronics; ComponentLink2Description: https://datasheet.ciiva.com/16511/vjw1bcbascomseries-16511422.pdf?src-supplier=Future+Electronics; Supplier Part Number 1: 720-VJ0402Y101KXJCW1BCCT-ND
footprint CAPC1005X07N - 0402 (Chip Capacitor, 2-Leads, Body 1/00x0/50mm, IPC Medium Density)
footprint CAPC1005X07M - 0402 (Chip Capacitor, 2-Leads, Body 1/00x0/50mm, IPC Low Density)
footprint CAPC1005X07L - 0402 (Chip Capacitor, 2-Leads, Body 1/00x0/50mm, IPC High Density)
pins: 1, 2

## CAP_100pF-100V-5%-0805-NP0
designator C?, comment 100pF
CAP CER 100PF 100V C0G/NP0 0805; Manufacturer: Samsung; Manufacturer Part Number: CL21C101JCANNNC; Material: Ceramic; Tolerance: 5%; Dielectric: C0G; Temperature Coefficient: 300ppm/°C; Supplier 1: Digi-Key; RoHS: Yes; Category: Ceramic Capacitors; Stock 1: 169862; Pricing 1: 1=0/10000, 10=0/04600, 50=0/02500, 100=0/02040, 500=0/01460, 1000=0/01146 (USD); Mount: Surface Mount; Case/Package: 0805; Case Code (Metric): 2012; Case Code (Imperial): 0805; Contact Plating: Tin; Min Operating Temperature: -55°C; Max Operating Temperature: 125°C; Voltage Rating: 100V; Package Quantity: 1; Packaging: Tape and Reel; Capacitance: 100pF; Voltage: 100V; Series: CL; Construction: Flat; Length: 2mm; Width: 0.049inch; Height: 0.65mm; Thickness: 0.03inch; Depth: 1.25mm; Radiation Hardening: No; RoHS Compliant: Yes; ComponentLink1URL: https://datasheet.ciiva.com/15195/getdatasheetpartid-543198-15195932.pdf?src-supplier=Verical; ComponentLink1Description: https://datasheet.ciiva.com/15195/getdatasheetpartid-543198-15195932.pdf?src-supplier=Verical; ComponentLink2URL: https://datasheet.ciiva.com/29199/454055-da-01-en-vs-kondensator-0805-29199890.pdf?src-supplier=Conrad; ComponentLink2Description: https://datasheet.ciiva.com/29199/454055-da-01-en-vs-kondensator-0805-29199890.pdf?src-supplier=Conrad; ComponentLink3URL: https://datasheet.ciiva.com/26310/mlcc-catalogdownload2013-eng-26310191.pdf?src-supplier=Distrelec; ComponentLink3Description: https://datasheet.ciiva.com/26310/mlcc-catalogdownload2013-eng-26310191.pdf?src-supplier=Distrelec; Supplier Part Number 1: 1276-1261-1-ND
footprint CAPC2012X14N - 0805 (Chip Capacitor, 2-Leads, Body 2/00x1/25mm, IPC Medium Density)
footprint CAPC2012X14M - 0805 (Chip Capacitor, 2-Leads, Body 2/00x1/25mm, IPC Low Density)
footprint CAPC2012X14L - 0805 (Chip Capacitor, 2-Leads, Body 2/00x1/25mm, IPC High Density)
pins: 1, 2

## CAP_100uF-6.3V-20%-1210-X5R
designator C?, comment 100uF
1210 100 uF 6.3 V ±20% Tolerance X5R SMT Multilayer Ceramic Capacitor; Manufacturer: Murata; Manufacturer Part Number: GRM32ER60J107ME20L; Voltage Rating: 6.3V; Supplier 1: Digi-Key; RoHS: Yes; Category: Ceramic Capacitors; Stock 1: 455; Pricing 1: 1=0/77000, 10=0/54100, 50=0/40920, 100=0/35640, 500=0/26400 (USD); Mount: Surface Mount; Case/Package: 1210; Number of Pins: 2; Case Code (Metric): 3225; Case Code (Imperial): 1210; Material: Ceramic; Min Operating Temperature: -55°C; Max Operating Temperature: 85°C; Package Quantity: 1; Capacitance: 100uF; Tolerance: 20%; Packaging: Tape and Reel; Voltage Rating (DC): 6.3V; Dielectric: X5R; Termination: SMD/SMT; Voltage: 6.3V; Length: 3.2mm; Width: 0.098inch; Height: 2.5mm; Thickness: 0.106inch; Depth: 2.5mm; Radiation Hardening: No; REACH SVHC: No SVHC; Lead Free: Lead Free; RoHS Compliant: Yes; ComponentLink1URL: https://datasheet.ciiva.com/11786/0900766b80a008dd-11786740.pdf?src-supplier=RSComponents; ComponentLink1Description: https://datasheet.ciiva.com/11786/0900766b80a008dd-11786740.pdf?src-supplier=RSComponents; ComponentLink2URL: https://datasheet.ciiva.com/143/product-143008.pdf?src-supplier=Digi-Key; ComponentLink2Description: https://datasheet.ciiva.com/143/product-143008.pdf?src-supplier=Digi-Key; ComponentLink3URL: https://datasheet.ciiva.com/29202/451200-da-01-de-vs-chip-kond-1210-100-0-uf-20pr-6-3v-x5r-29202492.pdf?src-supplier=Conrad; ComponentLink3Description: https://datasheet.ciiva.com/29202/451200-da-01-de-vs-chip-kond-1210-100-0-uf-20pr-6-3v-x5r-29202492.pdf?src-supplier=Conrad; ComponentLink4URL: https://datasheet.ciiva.com/29199/455114-da-01-en-vs-kondensator-1210-29199468.pdf?src-supplier=Conrad; ComponentLink4Description: https://datasheet.ciiva.com/29199/455114-da-01-en-vs-kondensator-1210-29199468.pdf?src-supplier=Conrad; ComponentLink5URL: https://datasheet.ciiva.com/7719/608985-7719180.pdf?src-supplier=Element14; ComponentLink5Description: https://datasheet.ciiva.com/7719/608985-7719180.pdf?src-supplier=Element14; ComponentLink6URL: https://datasheet.ciiva.com/22706/608985-22706869.pdf?src-supplier=Element14; ComponentLink6Description: https://datasheet.ciiva.com/22706/608985-22706869.pdf?src-supplier=Element14; ComponentLink7URL: https://datasheet.ciiva.com/143/product-143009.pdf?src-supplier=Digi-Key; ComponentLink7Description: https://datasheet.ciiva.com/143/product-143009.pdf?src-supplier=Digi-Key; ComponentLink8URL: https://datasheet.ciiva.com/143/product-143010.pdf?src-supplier=Digi-Key; ComponentLink8Description: https://datasheet.ciiva.com/143/product-143010.pdf?src-supplier=Digi-Key; ComponentLink9URL: https://datasheet.ciiva.com/16292/l0005e-16292718.pdf?src-supplier=Future+Electronics; ComponentLink9Description: https://datasheet.ciiva.com/16292/l0005e-16292718.pdf?src-supplier=Future+Electronics; Supplier Part Number 1: 490-3390-1-ND
footprint CAPC3225X27N - 1210 (Chip Capacitor, 2-Leads, Body 3/20x2/50mm, IPC Medium Density)
footprint CAPC3225X27M - 1210 (Chip Capacitor, 2-Leads, Body 3/20x2/50mm, IPC Low Density)
footprint CAPC3225X27L - 1210 (Chip Capacitor, 2-Leads, Body 3/20x2/50mm, IPC High Density)
pins: 1, 2

## CAP_330pF-16V-10%-0402-X7R
designator C?, comment 330pF
Cap, 330Pf, 16V, Mlcc, 0402 Rohs Compliant: No; Manufacturer: Vishay Vitramon; Manufacturer Part Number: VJ0402Y331KLJAJ32; Supplier 1: Digi-Key; RoHS: No; Stock 1: 660; Pricing 1: 1=0/64000, 10=0/45100, 50=0/34100, 100=0/29700, 500=0/22000 (USD); Supplier Part Number 1: 720-VJ0402Y331KLJAJ32CT-ND
footprint CAPC1005X07N - 0402 (Chip Capacitor, 2-Leads, Body 1/00x0/50mm, IPC Medium Density)
footprint CAPC1005X07M - 0402 (Chip Capacitor, 2-Leads, Body 1/00x0/50mm, IPC Low Density)
footprint CAPC1005X07L - 0402 (Chip Capacitor, 2-Leads, Body 1/00x0/50mm, IPC High Density)
pins: 1, 2

## CAP_330pF-50V-5%-0805-X7R
designator C?, comment 330pF
Cap Ceramic 330pF 50V X7R 5% SMD 0805 125°C Paper T/R; Manufacturer: Samsung; Manufacturer Part Number: CL21B331JBANNNC; Supplier 1: Digi-Key; RoHS: Yes; Category: Ceramic Capacitors; Mount: Surface Mount; Case/Package: 0805; Case Code (Metric): 2012; Case Code (Imperial): 0805; Min Operating Temperature: -55°C; Max Operating Temperature: 125°C; Package Quantity: 1; Packaging: Tape and Reel; Tolerance: 5%; Capacitance: 330pF; Voltage Rating: 50V; Voltage Rating (DC): 50V; Series: CL; Length: 0.079inch; Width: 0.049inch; Thickness: 0.03inch; RoHS Compliant: Yes; ComponentLink1URL: https://datasheet.ciiva.com/25720/cl21b331jbannnc-25720804.pdf?src-supplier=Digi-Key; ComponentLink1Description: https://datasheet.ciiva.com/25720/cl21b331jbannnc-25720804.pdf?src-supplier=Digi-Key; Supplier Part Number 1: 1276-2500-1-ND
footprint CAPC2012X14N - 0805 (Chip Capacitor, 2-Leads, Body 2/00x1/25mm, IPC Medium Density)
footprint CAPC2012X14M - 0805 (Chip Capacitor, 2-Leads, Body 2/00x1/25mm, IPC Low Density)
footprint CAPC2012X14L - 0805 (Chip Capacitor, 2-Leads, Body 2/00x1/25mm, IPC High Density)
pins: 1, 2

## CAP_330uF-2.5V-20%-2917-TAN
designator C?, comment 330uF
V? 330µF ±20% 2.5V ESR=25mO@100kHz; Manufacturer: KEMET; Manufacturer Part Number: T520V337M2R5ATE025; Dielectric Material: Tantalum; ESR (Equivalent Series Resistance): 25mR; Ripple Current: 700mA; Leakage Current: 83uA; Polarity: Polar; Dissipation Factor: 10%; Life (Hours): 2000Hour; Supplier 1: Digi-Key; RoHS: Yes; Category: Polymer Capacitors; Stock 1: 100; Pricing 1: 1=1/84000, 10=1/45300, 50=1/25900, 100=1/08960, 500=0/82326 (USD); Mount: Surface Mount,PCB; Case/Package: 2917; Number of Pins: 2; Case Code (Metric): 7343; Case Code (Imperial): 2917; Min Operating Temperature: -55°C; Max Operating Temperature: 105°C; Package Quantity: 1; Capacitance: 330uF; Voltage Rating: 2.5V; Tolerance: 20%; Packaging: Tape and Reel; Voltage Rating (DC): 2.5V; Termination: SMD/SMT; Voltage: 2.5V; Features: General Purpose; Series: KO-CAP T520; Construction: Flat; Length: 7.3mm; Width: 0.169inch; Height: 1.9mm; Height - Seated (Max): 0.075inch; Depth: 4.3mm; Lead Pitch: 3.6mm; Radiation Hardening: No; REACH SVHC: No SVHC; Lead Free: Lead Free; RoHS Compliant: Yes; ComponentLink1URL: https://datasheet.ciiva.com/7851/652161-7851536.pdf?src-supplier=Element14; ComponentLink1Description: https://datasheet.ciiva.com/7851/652161-7851536.pdf?src-supplier=Element14; ComponentLink2URL: https://datasheet.ciiva.com/22698/652161-22698955.pdf?src-supplier=Element14; ComponentLink2Description: https://datasheet.ciiva.com/22698/652161-22698955.pdf?src-supplier=Element14; ComponentLink3URL: https://datasheet.ciiva.com/28561/652161-28561215.pdf?src-supplier=Element14; ComponentLink3Description: https://datasheet.ciiva.com/28561/652161-28561215.pdf?src-supplier=Element14; ComponentLink4URL: https://datasheet.ciiva.com/261/kem-t2015-t520-261744.pdf?src-supplier=Digi-Key; ComponentLink4Description: https://datasheet.ciiva.com/261/kem-t2015-t520-261744.pdf?src-supplier=Digi-Key; ComponentLink5URL: https://datasheet.ciiva.com/261/kem-t2015-t520-261743.pdf?src-supplier=Digi-Key; ComponentLink5Description: https://datasheet.ciiva.com/261/kem-t2015-t520-261743.pdf?src-supplier=Digi-Key; ComponentLink6URL: https://datasheet.ciiva.com/261/kem-t2015-t520-261745.pdf?src-supplier=Digi-Key; ComponentLink6Description: https://datasheet.ciiva.com/261/kem-t2015-t520-261745.pdf?src-supplier=Digi-Key; ComponentLink7URL: https://datasheet.ciiva.com/14586/70095957-14586054.pdf?src-supplier=Allied+Electronics; ComponentLink7Description: https://datasheet.ciiva.com/14586/70095957-14586054.pdf?src-supplier=Allied+Electronics; ComponentLink8URL: https://datasheet.ciiva.com/14604/70095957-14604774.pdf?src-supplier=Allied+Electronics; ComponentLink8Description: https://datasheet.ciiva.com/14604/70095957-14604774.pdf?src-supplier=Allied+Electronics; Supplier Part Number 1: 399-4105-1-ND
footprint CAPMP7361X30N - E (Molded Capacitor, 2-Leads, Body 7/30x6/10mm, IPC Medium Density)
pins: A 2, C 1
text: +

## CAP_470uF-6.3V-20%-2917-TAN
designator C?, comment 470uF
Capacitor Tantalum Polymer 470uF 20% 6.3V 2-Pin Surface Mount T/R; Manufacturer: Kyocera AVX; Manufacturer Part Number: TCME477M006R0007E; Supplier 1: Digi-Key; RoHS: Yes; Stock 1: 458; Pricing 1: 1=8/70000, 10=7/73000, 50=6/76400, 100=6/18420 (USD); Supplier Part Number 1: 478-TCME477M006R0007ECT-ND
footprint CAPMP7361X30N - E (Molded Capacitor, 2-Leads, Body 7/30x6/10mm, IPC Medium Density)
pins: A 2, C 1
text: +

## CAP_560pF-100V-10%-0603-X7R
designator C?, comment 560pF
Cap Ceramic 560pF 100V X7R 10% SMD 0603 125°C Cardboard T/R; Manufacturer: Samsung; Manufacturer Part Number: CL10B561KC8WPNC; Supplier 1: Digi-Key; RoHS: Yes; Category: Ceramic Capacitors; Mount: Surface Mount; Case/Package: 0603; Case Code (Metric): 1608; Case Code (Imperial): 0603; Min Operating Temperature: -55°C; Max Operating Temperature: 125°C; Packaging: Tape and Reel; Capacitance: 560pF; Voltage Rating: 100V; Tolerance: 10%; Features: Soft Termination; Length: 0.063inch; Width: 0.031inch; Thickness: 0.035inch; Ratings: AEC-Q200; RoHS Compliant: No; ComponentLink1URL: https://media.digikey.com/pdf/Data%20Sheets/Samsung%20PDFs/CL_Series_MLCC_ds.pdf?src-supplier=Digi-Key; ComponentLink1Description: https://media.digikey.com/pdf/Data%20Sheets/Samsung%20PDFs/CL_Series_MLCC_ds.pdf?src-supplier=Digi-Key; ComponentLink2URL: http://www.samsungsem.com/kr/support/library/product-catalog/mlcc.jsp?src-supplier=Digi-Key; ComponentLink2Description: http://www.samsungsem.com/kr/support/library/product-catalog/mlcc.jsp?src-supplier=Digi-Key; Supplier Part Number 1: 1276-6657-1-ND
footprint CAPC1608X07N - 0603 (Chip Capacitor, 2-Leads, Body 1/60x0/80mm, IPC Medium Density)
footprint CAPC1608X07M - 0603 (Chip Capacitor, 2-Leads, Body 1/60x0/80mm, IPC Low Density)
footprint CAPC1608X07L - 0603 (Chip Capacitor, 2-Leads, Body 1/60x0/80mm, IPC High Density)
pins: 1, 2

## CAP_1000pF-50V-5%-0402-C0G
designator C?, comment 1000pF
CAP CER 1000PF 50V C0G/NP0 0402; Manufacturer: Samsung; Manufacturer Part Number: CL05C102JB5NNNC; Material: Ceramic; Tolerance: 5%; Capacitance: 1nF; Dielectric: C0G; Temperature Coefficient: 300ppm/°C; Supplier 1: Digi-Key; RoHS: Yes; Category: Ceramic Capacitors; Stock 1: 116025; Pricing 1: 1=0/11000, 10=0/07800, 50=0/04280, 100=0/03490, 500=0/02496, 1000=0/01961, 2500=0/01783, 5000=0/01640 (USD); Mount: Surface Mount; Case/Package: 0402; Case Code (Metric): 1005; Case Code (Imperial): 0402; Min Operating Temperature: -55°C; Max Operating Temperature: 125°C; Packaging: Tape and Reel; Voltage Rating: 50V; Package Quantity: 1; Voltage: 50V; Voltage Rating (DC): 50V; Series: CL; Construction: Flat; Length: 1mm; Width: 0.02inch; Height: 0.5mm; Thickness: 0.022inch; Depth: 0.5mm; Radiation Hardening: No; Lead Free: Lead Free; RoHS Compliant: Yes; ComponentLink1URL: https://datasheet.ciiva.com/25735/cl05c102jb5nnnc-25735686.pdf?src-supplier=Digi-Key; ComponentLink1Description: https://datasheet.ciiva.com/25735/cl05c102jb5nnnc-25735686.pdf?src-supplier=Digi-Key; ComponentLink2URL: https://datasheet.ciiva.com/29198/459210-da-01-en-vs-kondensator-0402-29198347.pdf?src-supplier=Conrad; ComponentLink2Description: https://datasheet.ciiva.com/29198/459210-da-01-en-vs-kondensator-0402-29198347.pdf?src-supplier=Conrad; ComponentLink3URL: https://datasheet.ciiva.com/26310/mlcc-catalogdownload2013-eng-26310343.pdf?src-supplier=Distrelec; ComponentLink3Description: https://datasheet.ciiva.com/26310/mlcc-catalogdownload2013-eng-26310343.pdf?src-supplier=Distrelec; Supplier Part Number 1: 1276-1635-1-ND
footprint CAPC1005X07N - 0402 (Chip Capacitor, 2-Leads, Body 1/00x0/50mm, IPC Medium Density)
footprint CAPC1005X07M - 0402 (Chip Capacitor, 2-Leads, Body 1/00x0/50mm, IPC Low Density)
footprint CAPC1005X07L - 0402 (Chip Capacitor, 2-Leads, Body 1/00x0/50mm, IPC High Density)
pins: 1, 2

## CAP_1000pF-50V-5%-0603-C0G
designator C?, comment 1000pF
Ceramic capacitor SMD-0603 1, 0nF /50V C0G# J +-5%, Samsung, RoHS; Manufacturer Part Number: CL10C102JB8NNNC; Tolerance: 5%; Capacitance: 1nF; Dielectric: C0G; Voltage: 50V; Temperature Coefficient: 300ppm/°C; Supplier 1: Digi-Key; Manufacturer: Samsung; RoHS: Yes; Category: Ceramic Capacitors; Stock 1: 2680474; Pricing 1: 1=0/10000, 10=0/03000, 50=0/01640, 100=0/01330, 500=0/00950, 1000=0/00747 (USD); Mount: Surface Mount; Case/Package: 0603; Case Code (Metric): 1608; Case Code (Imperial): 0603; Material: Ceramic; Min Operating Temperature: -55°C; Max Operating Temperature: 125°C; Voltage Rating (DC): 50V; Voltage Rating: 50V; Packaging: Tape and Reel; Package Quantity: 1; Series: CL; Length: 1.6mm; Width: 0.031inch; Height: 0.8mm; Depth: 0.8mm; Thickness: 0.035inch; Radiation Hardening: No; Lead Free: Lead Free; RoHS Compliant: Yes; ComponentLink1URL: https://datasheet.ciiva.com/15195/getdatasheetpartid-354056-15195790.pdf?src-supplier=Verical; ComponentLink1Description: https://datasheet.ciiva.com/15195/getdatasheetpartid-354056-15195790.pdf?src-supplier=Verical; ComponentLink2URL: https://datasheet.ciiva.com/29198/458273-da-01-en-vs-kondensator-0603-29198494.pdf?src-supplier=Conrad; ComponentLink2Description: https://datasheet.ciiva.com/29198/458273-da-01-en-vs-kondensator-0603-29198494.pdf?src-supplier=Conrad; ComponentLink3URL: https://datasheet.ciiva.com/26310/mlcc-catalogdownload2013-eng-26310329.pdf?src-supplier=Distrelec; ComponentLink3Description: https://datasheet.ciiva.com/26310/mlcc-catalogdownload2013-eng-26310329.pdf?src-supplier=Distrelec; Supplier Part Number 1: 1276-1091-1-ND
footprint CAPC1608X07N - 0603 (Chip Capacitor, 2-Leads, Body 1/60x0/80mm, IPC Medium Density)
footprint CAPC1608X07M - 0603 (Chip Capacitor, 2-Leads, Body 1/60x0/80mm, IPC Low Density)
footprint CAPC1608X07L - 0603 (Chip Capacitor, 2-Leads, Body 1/60x0/80mm, IPC High Density)
pins: 1, 2

## CAP_1000pF-50V-5%-0805-C0G
designator C?, comment 1000pF
Cap Ceramic 0.001uF 50V C0G 5% SMD 0805 125°C Paper T/R; Manufacturer: Samsung; Manufacturer Part Number: CL21C102JBCNFNC; Capacitance: 1nF; Supplier 1: Digi-Key; RoHS: Yes; Category: Ceramic Capacitors; Stock 1: 271088; Pricing 1: 1=0/11000, 10=0/08300, 50=0/04520, 100=0/03690, 500=0/02634, 1000=0/02069 (USD); Mount: Surface Mount; Case/Package: 0805; Case Code (Metric): 2012; Case Code (Imperial): 0805; Contact Plating: Tin,Matte; Min Operating Temperature: -55°C; Max Operating Temperature: 125°C; Package Quantity: 1; Packaging: Tape and Reel; Tolerance: 5%; Voltage Rating: 50V; Dielectric: C0G; Series: CL; Construction: Flat; Length: 0.079inch; Width: 0.049inch; Height: 0.85mm; Thickness: 0.037inch; Depth: 1.25mm; Radiation Hardening: No; RoHS Compliant: Yes; ComponentLink1URL: https://datasheet.ciiva.com/25733/cl21c102jbcnfnc-25733302.pdf?src-supplier=Digi-Key; ComponentLink1Description: https://datasheet.ciiva.com/25733/cl21c102jbcnfnc-25733302.pdf?src-supplier=Digi-Key; Supplier Part Number 1: 1276-2576-1-ND
footprint CAPC2012X14N - 0805 (Chip Capacitor, 2-Leads, Body 2/00x1/25mm, IPC Medium Density)
footprint CAPC2012X14M - 0805 (Chip Capacitor, 2-Leads, Body 2/00x1/25mm, IPC Low Density)
footprint CAPC2012X14L - 0805 (Chip Capacitor, 2-Leads, Body 2/00x1/25mm, IPC High Density)
pins: 1, 2

## CAP_1000pF-630V-5%-1206-C0G
designator C?, comment 1000pF
Cap Ceramic 0.001uF 50V C0G 5% SMD 0805 125°C Paper T/R; Manufacturer: Samsung; Manufacturer Part Number: CL21C102JBCNFNC; Capacitance: 1nF; Supplier 1: Digi-Key; RoHS: Yes; Category: Ceramic Capacitors; Stock 1: 271088; Pricing 1: 1=0/11000, 10=0/08300, 50=0/04520, 100=0/03690, 500=0/02634, 1000=0/02069 (USD); Mount: Surface Mount; Case/Package: 0805; Case Code (Metric): 2012; Case Code (Imperial): 0805; Contact Plating: Tin,Matte; Min Operating Temperature: -55°C; Max Operating Temperature: 125°C; Package Quantity: 1; Packaging: Tape and Reel; Tolerance: 5%; Voltage Rating: 50V; Dielectric: C0G; Series: CL; Construction: Flat; Length: 0.079inch; Width: 0.049inch; Height: 0.85mm; Thickness: 0.037inch; Depth: 1.25mm; Radiation Hardening: No; RoHS Compliant: Yes; ComponentLink1URL: https://datasheet.ciiva.com/25733/cl21c102jbcnfnc-25733302.pdf?src-supplier=Digi-Key; ComponentLink1Description: https://datasheet.ciiva.com/25733/cl21c102jbcnfnc-25733302.pdf?src-supplier=Digi-Key; Supplier Part Number 1: 1276-2576-1-ND
footprint CAPC3216X18N - 1206 (Chip Capacitor, 2-Leads, Body 3/20x1/60mm, IPC Medium Density)
footprint CAPC3216X18M - 1206 (Chip Capacitor, 2-Leads, Body 3/20x1/60mm, IPC Low Density)
footprint CAPC3216X18L - 1206 (Chip Capacitor, 2-Leads, Body 3/20x1/60mm, IPC High Density)
pins: 1, 2